# EAGLE library part NXW-06 (library con-ninigi)
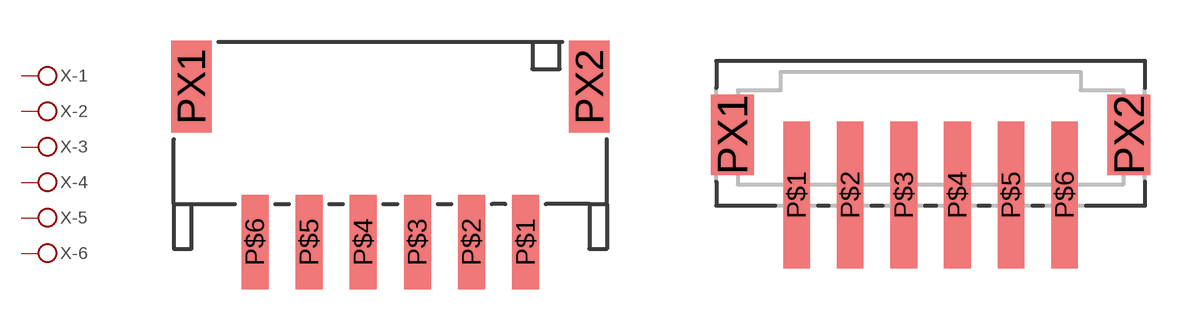
[diagram p2: symbol with the pads of NXW-06SMDK; footprints NXW-06SMDK, NXW-06SMD]

Designator prefix X; gates -1=PIN -2=PIN -3=PIN -4=PIN -5=PIN -6=PIN

## NXW-06SMDK  [NXW-06SMDK]
P$1  -1:P$1
P$2  -2:P$1
P$3  -3:P$1
P$4  -4:P$1
P$5  -5:P$1
P$6  -6:P$1

## NXW-06SMD  [NXW-06SMD]
Pads as for NXW-06SMDK

## Footprint NXW-06SMDK (pad centres in mm)
smd 1 x 3.5: P$1 5,0; P$2 3,0; P$3 1,0; P$4 -1,0; P$5 -3,0; P$6 -5,0
smd 1.5 x 3.4: PX1 -7.35,5.75; PX2 7.35,5.75

## Footprint NXW-06SMD (pad centres in mm)
smd 1 x 5.5: P$1 -5,0; P$2 -3,0; P$3 -1,0; P$4 1,0; P$5 3,0; P$6 5,0
smd 1.6 x 3: PX1 -7.4,2.25; PX2 7.4,2.25